# EAGLE library part ESP8285-M1 (library ESP8285-M1)
Resource : https://github.com/dnksavaliya/LearnElectronics/tree/master/ESP-EagleLibrary ESP8285-M1 Designed by Dnksavaliya & Aashish Agravat
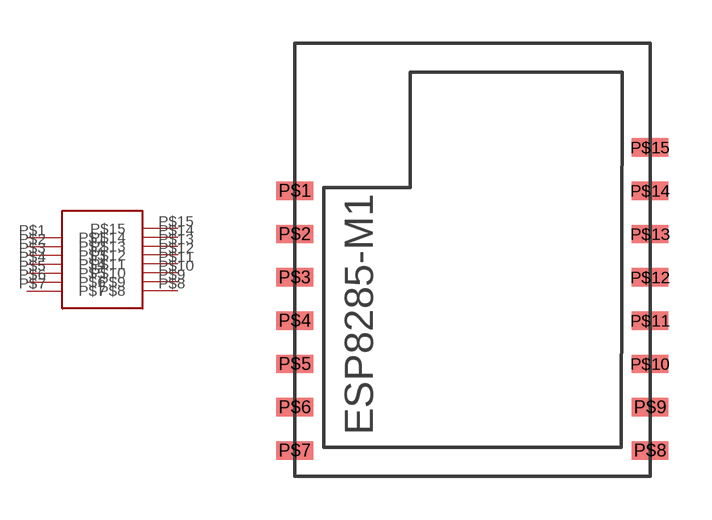
[diagram p0: symbol with the pads of ESP8285-M1; footprint ESP8285-M1]

Designator prefix -

## ESP8285-M1  [ESP8285-M1]
P$1  P$1
P$2  P$2
P$3  P$3
P$4  P$4
P$5  P$5
P$6  P$6
P$7  P$7
P$8  P$8
P$9  P$9
P$10  P$10
P$11  P$11
P$12  P$12
P$13  P$13
P$14  P$14
P$15  P$15

## Footprint ESP8285-M1 (pad centres in mm)
Resource : https://github.com/dnksavaliya/LearnElectronics/tree/master/ESP-EagleLibrary ESP8285-M1 Designed by Dnksavaliya & Aashish Agravat
smd 1.27 x 0.635: P$1 0,9.89; P$2 0,8.39; P$3 0,6.89; P$4 0,5.39; P$5 0,3.89; P$6 0,2.39; P$7 0,0.89; P$8 12.3,0.89; P$9 12.3,2.39; P$10 12.3,3.89; P$11 12.3,5.39; P$12 12.3,6.89; P$13 12.3,8.39; P$14 12.3,9.89; P$15 12.3,11.39